# Altium schematic symbol library MCU0805MD3304BP500.SchLib: 1 symbol
Pins are listed as number, name and electrical type; pins without a type are passive.

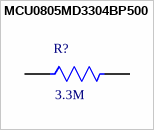
[diagram p0: symbol MCU0805MD3304BP500]

## MCU0805MD3304BP500
designator R?  Resistance: 3.3M  (hidden comment: MCU0805MD3304BP500)
3.3M Ohm .1% 25PPM 1/8W; Manufacturer_Name: Vishay; Manufacturer: Vishay BCcomponents; Geometry.Height: 0.62mm; Mouser Part Number: 594-MCU0805MD3304BP5; Mouser Price/Stock: https://www.mouser.co.uk/ProductDetail/Vishay-Beyschlag/MCU0805MD3304BP500?qs=A6eO%252BMLsxmSZlVWVx087zg%3D%3D; Manufacturer_Part_Number: MCU0805MD3304BP500; Datasheet Link: https://www.mouser.in/datasheet/2/427/mc_at_precision-1762846.pdf; Manufacturer Part Number: MCU0805MD3304BP500; RoHS: No; Category: Chip SMD Resistors
footprint RESC2012X62N
pins: 1, 2